# EAGLE library part CON-10 (library firefly)
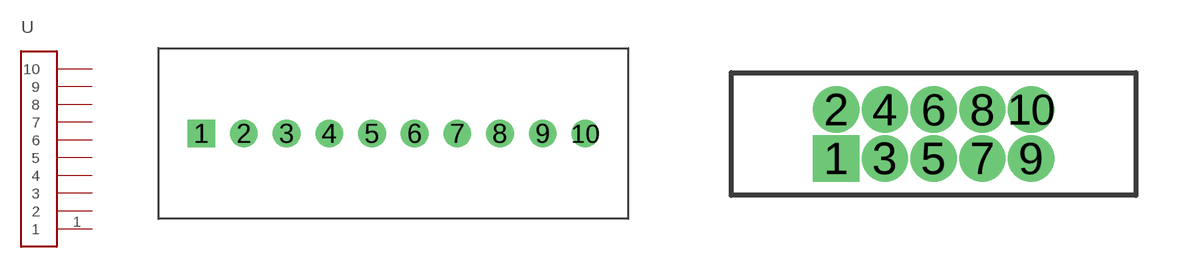
[diagram p20: symbol with the pads of CON-HEADER-10; footprints CON-HEADER-10, SWD-10]

Designator prefix -

## CON-10  [CON-HEADER-10]
1  1
2  2
3  3
4  4
5  5
6  6
7  7
8  8
9  9
10  10

## CON-10SWD  [SWD-10]
Pads as for CON-HEADER-10

## Footprint CON-HEADER-10 (pad centres in mm)
drill 1.102 square: 1 -11.43,0
drill 1.102: 2 -8.89,0; 3 -6.35,0; 4 -3.81,0; 5 -1.27,0; 6 1.27,0; 7 3.81,0; 8 6.35,0; 9 8.89,0; 10 11.43,0

## Footprint SWD-10 (pad centres in mm)
drill 0.7 pad 1 square: 1 -2.54,-0.635
drill 0.7 pad 1: 2 -2.54,0.635; 3 -1.27,-0.635; 4 -1.27,0.635; 5 0,-0.635; 6 0,0.635; 7 1.27,-0.635; 8 1.27,0.635; 9 2.54,-0.635; 10 2.54,0.635